# Altium footprint library RESC2012X07N.PcbLib: 1 footprints
Each footprint in its own frame and in the unit in brackets; x right, y up, seen from the top. Pads: shape width x height; smd on the part's side, far side on the other; paste and mask are expansions set on the pad; w line width, h text height; cw(c..) or ccw(c..) is an arc to the next point about the centre after c.
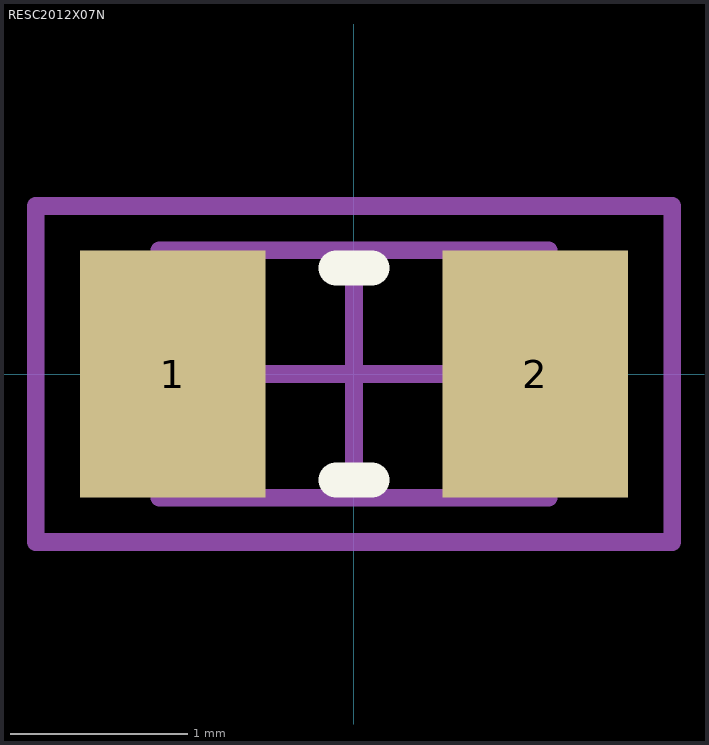
[diagram p0: the footprint, top view; thin cyan lines are the x and y axes]

## RESC2012X07N [mm] "Chip Resistor, 2-Leads, Body 2.1x1.3mm, IPC Medium Density"
height 0.7
pads (2):
  rect 1.05x1.4 smd: 1(-1.025,0) 2(1.025,0)
Top Overlay:
  lines w0.2: -0.1,-0.6 0.1,-0.6 ; -0.1,0.6 0.1,0.6
Mechanical 13:
  lines w0.1: -1.1,-0.7 -1.1,0.7 1.1,0.7 1.1,-0.7 -1.1,-0.7
Mechanical 15:
  lines w0.1: -0.5,0 0.5,0 ; 0,-0.5 0,0.5 ; -1.8,-0.95 -1.8,0.95 1.8,0.95 1.8,-0.95 -1.8,-0.95
3D body: height 0.7, standoff 0, extent -1.1,-0.7 1.1,0.7